# EAGLE library part AP2192ASG-13 (library JetsonProj)
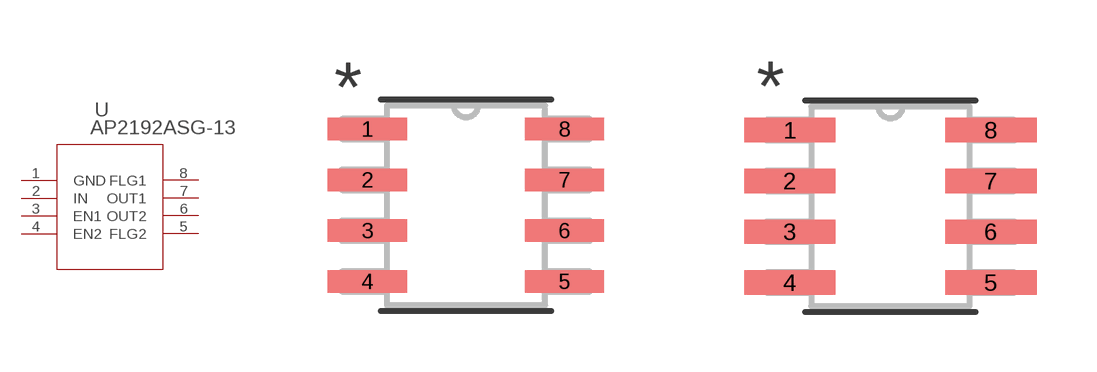
[diagram p0: symbol with the pads of SO8; footprints SO8, SO8-M]

Designator prefix U

## AP2192ASG-13 (MANUFACTURER_PART_NUMBER: AP2192ASG13; VENDOR: Diodes Inc)  [SO8]
1  GND  pwr
2  IN  in
3  EN1  in
4  EN2  in
5  FLG2  pas
6  OUT2  out
7  OUT1  out
8  FLG1  pas

## AP2192ASG-13SO8-M (MANUFACTURER_PART_NUMBER: AP2192ASG13; VENDOR: Diodes Inc)  [SO8-M]
Pads as for SO8

## AP2192ASG-13SO8-L (MANUFACTURER_PART_NUMBER: AP2192ASG13; VENDOR: Diodes Inc)  [SO8-L]
Pads as for SO8

## Footprint SO8 (pad centres in mm)
smd 1.981 x 0.559: 1 -2.464,1.905; 2 -2.464,0.635; 3 -2.464,-0.635; 4 -2.464,-1.905; 5 2.464,-1.905; 6 2.464,-0.635; 7 2.464,0.635; 8 2.464,1.905

## Footprint SO8-M (pad centres in mm)
smd 2.286 x 0.61: 1 -2.515,1.905; 2 -2.515,0.635; 3 -2.515,-0.635; 4 -2.515,-1.905; 5 2.515,-1.905; 6 2.515,-0.635; 7 2.515,0.635; 8 2.515,1.905

## Footprint SO8-L (pad centres in mm)
smd 1.676 x 0.508: 1 -2.413,1.905; 2 -2.413,0.635; 3 -2.413,-0.635; 4 -2.413,-1.905; 5 2.413,-1.905; 6 2.413,-0.635; 7 2.413,0.635; 8 2.413,1.905